# EAGLE library part CARD_CONNECTOR_SD (library SD_Card_connector)
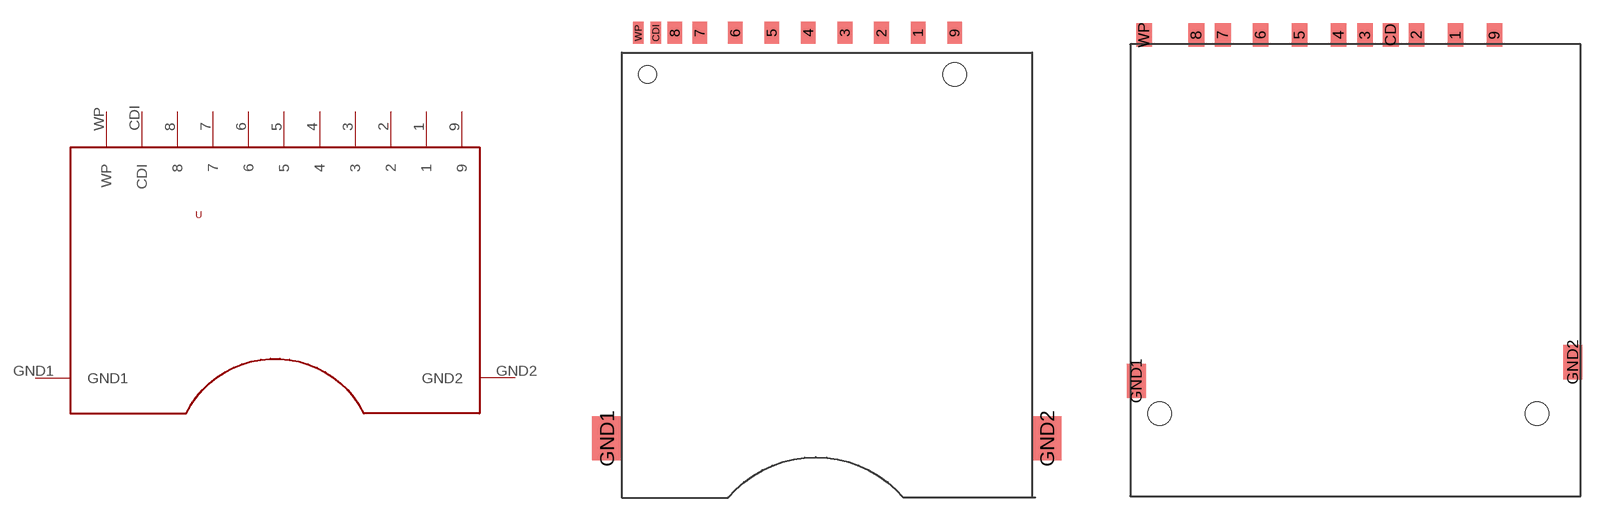
[diagram p0: symbol with the pads of 3M-SD_CARD; footprints 3M-SD_CARD, FCI_SD_CARD]

Designator prefix -

## CARD_CONNECTOR_SD  [3M-SD_CARD]
1  1
2  2
3  3
4  4
5  5
6  6
7  7
8  8
9  9
CDI  CDI
GND1  GND1
GND2  GND2
WP  WP

## CARD_CONNECTOR_SDFCI  [FCI_SD_CARD]
1  1
2  2
3  3
4  4
5  5
6  6
7  7
8  8
9  9
CD  CDI
GND1  GND1
GND2  GND2
WP  WP

## Footprint 3M-SD_CARD (pad centres in mm)
smd 1 x 1.5: 1 7,2.8; 2 4.5,2.8; 3 2,2.8; 4 -0.5,2.8; 5 -3,2.8; 6 -5.5,2.8; 7 -7.93,2.8; 8 -9.63,2.8; 9 9.5,2.8
smd 0.7 x 1.5: CDI -10.93,2.8; WP -12.13,2.8
smd 2 x 3: GND1 -14.28,-24.95; GND2 15.82,-24.95
hole 1.6 at 9.5,-0.05
hole 1.2 at -11.5,-0.05

## Footprint FCI_SD_CARD (pad centres in mm)
smd 1 x 1.5: 1 6.875,29; 2 4.375,29; 3 1.075,29; 4 -0.625,29; 5 -3.125,29; 6 -5.625,29; 7 -8.05,29; 8 -9.75,29; 9 9.375,29; CD 2.725,29; WP -13.1,29
smd 1.2 x 2.2: GND1 -13.6,6.8; GND2 14.4,8
hole 1.5 at 12.1,4.7
hole 1.5 at -12.1,4.7